# EAGLE library part MCP2551 (library MakBit)
MCP2551 High Speed CAN Transceiver High speed CAN transceiver
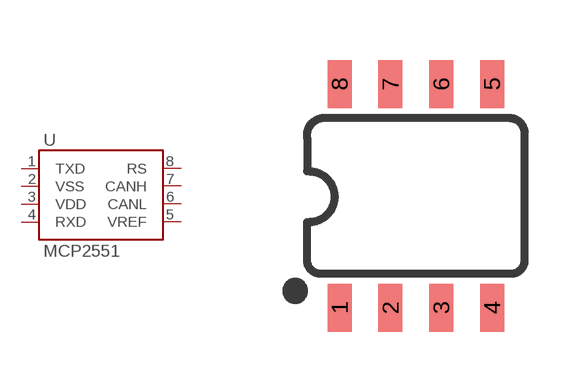
[diagram p13: symbol with the pads of SO08; footprint SO08]

Designator prefix U

## MCP2551 (PROD_ID: IC-09907; VALUE: MCP2551)  [SO08]
1  TXD
2  VSS
3  VDD
4  RXD
5  VREF
6  CANL
7  CANH
8  RS

## Footprint SO08 (pad centres in mm)
SOIC -8 Specifications: Pin count: 8 Width: 0.15" Example device(s): MCP2551
smd 0.6 x 1.2: 1 -1.905,-2.8; 2 -0.635,-2.8; 3 0.635,-2.8; 4 1.905,-2.8; 5 1.905,2.8; 6 0.635,2.8; 7 -0.635,2.8; 8 -1.905,2.8